# EAGLE library part S12232ZA (library densikit)
STN液晶モジュール(122x32)[S12232ZA] http://www.aitendo.com/product/4275 SED1520、122x32ドット、動作電源：5V ●コントローラチップSED1520を搭載したSTNドットマトリックス液晶モジュール 122x32ドット、バックライト無し、黄緑色、外形寸法：84.0x44.0mm、動作電源：5V ●ピンアサイン：1.GND、2.VCC、3.VO（GNDに接続）、4.A0、5.E1、6.E2、7.R/W、8-15.DB0-DB7、16.RST
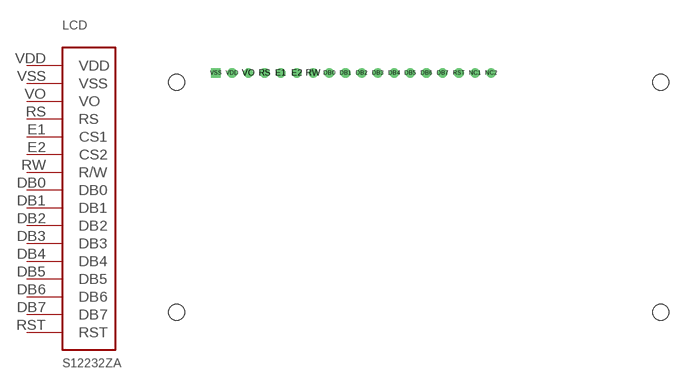
[diagram p9: symbol with the pads of S12232ZA; footprint S12232ZA]

Designator prefix LCD

## S12232ZA  [S12232ZA]
DB0  DB0
DB1  DB1
DB2  DB2
DB3  DB3
DB4  DB4
DB5  DB5
DB6  DB6
DB7  DB7
E1  CS1  in
E2  CS2  in
RS  RS  in
RST  RST  in
RW  R/W  in
VDD  VDD  pwr
VO  VO
VSS  VSS  pwr

## Footprint S12232ZA (pad centres in mm)
STN液晶モジュール(122x32) [S12232ZA] http://www.aitendo.com/product/4275 SED1520、122x32ドット、動作電源：5V 仕様・機能 ●コントローラチップSED1520を搭載したSTNドットマトリックス液晶モジュール、122x32ドット、バックライト無し、黄緑色、外形寸法：84.0x44.0mm、動作電源：5V、接続インターフェース：、●ピンアサイン：1.GND、2.VCC、3.VO（GNDに接続）、4.A0、5.E1、6.E2、7.R/W、8-15.DB0-DB7、16.RST
drill 1: DB0 -14.02,19.5; DB1 -11.48,19.5; DB2 -8.94,19.5; DB3 -6.4,19.5; DB4 -3.86,19.5; DB5 -1.32,19.5; DB6 1.22,19.5; DB7 3.76,19.5; E1 -21.64,19.5; E2 -19.1,19.5; NC1 8.84,19.5; NC2 11.38,19.5; RS -24.18,19.5; RST 6.3,19.5; RW -16.56,19.5; VDD -29.26,19.5; VO -26.72,19.5
drill 1 square: VSS -31.8,19.5
hole 2.5 at 38,18
hole 2.5 at -38,18
hole 2.5 at -38,-18
hole 2.5 at 38,-18